# EAGLE library part ADS1115 (library joakim)
Texas Instruments ADS1115 4 channel I2C ADC
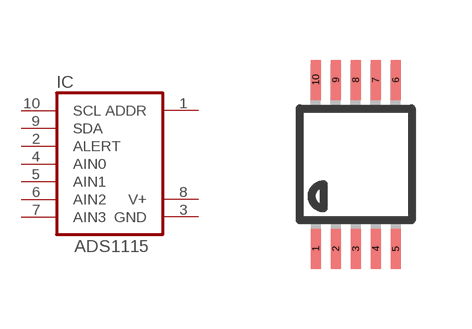
[diagram p88: symbol with the pads of MSOP10; footprint MSOP10]

Designator prefix IC

## ADS1115  [MSOP10]
1  ADDR  pas
2  ALERT  pas
3  GND  pwr
4  AIN0  pas
5  AIN1  pas
6  AIN2  pas
7  AIN3  pas
8  V+  pwr
9  SDA  pas
10  SCL  pas

## Footprint MSOP10 (pad centres in mm)
10-Lead Mini Small Outline Package [MSOP]
smd 0.25 x 1: 1 -1,-2.113; 2 -0.5,-2.113; 3 0,-2.113; 4 0.5,-2.113; 5 1,-2.113; 6 1,2.113; 7 0.5,2.113; 8 0,2.113; 9 -0.5,2.113; 10 -1,2.113